# EAGLE library part SAM-M8Q-GNSS (library FlashPCB_ICs)
SAM-M8Q-GNSS - u-blox M8 GNSS antenna module, embedded wide-band patch antenna Technical Specifications: 72-channel u-blox M8 engine GPS/QZSS L1 C/A, GLONASS L1OFGalileo E1B/CSBAS L1 C/A: WAAS, EGNOS, MSAS, GAGAN Interface: UART, DDC(I2C) Component Search: SAM-M8Q-0-10 <https://www.flashpcb.com/components> Datasheet: SAM-M8Q Easy-to-use u-blox M8 GNSS antenna module <https://content.u-blox.com/sites/default/files/SAM-M8Q_DataSheet_%28UBX-16012619%29.pdf>
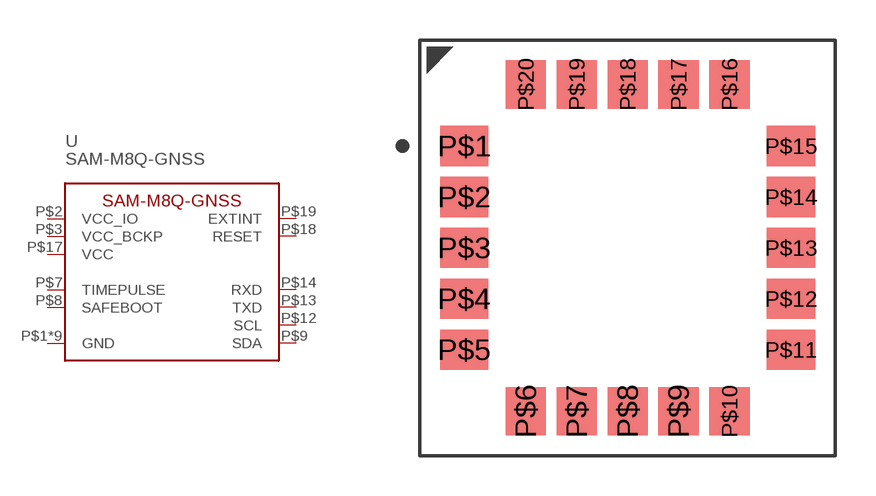
[diagram p74: symbol with the pads of SAM-M8Q; footprint SAM-M8Q]

Designator prefix U

## SAM-M8Q-GNSS  [SAM-M8Q]
P$1  GND
P$2  VCC_IO
P$3  VCC_BCKP
P$4  GND
P$5  GND
P$6  GND
P$7  TIMEPULSE
P$8  SAFEBOOT
P$9  SDA
P$10  GND
P$11  GND
P$12  SCL
P$13  TXD
P$14  RXD
P$15  GND
P$16  GND
P$17  VCC
P$18  RESET
P$19  EXTINT
P$20  GND

## Footprint SAM-M8Q (pad centres in mm)
smd 1.8 x 1.5: P$1 -6.1,3.8; P$2 -6.1,1.9; P$3 -6.1,0; P$4 -6.1,-1.9; P$5 -6.1,-3.8; P$11 6.1,-3.8; P$12 6.1,-1.9; P$13 6.1,0; P$14 6.1,1.9; P$15 6.1,3.8
smd 1.5 x 1.8: P$6 -3.8,-6.1; P$7 -1.9,-6.1; P$8 0,-6.1; P$9 1.9,-6.1; P$10 3.8,-6.1; P$16 3.8,6.1; P$17 1.9,6.1; P$18 0,6.1; P$19 -1.9,6.1; P$20 -3.8,6.1